# Altium schematic symbol library Recom.SchLib: 1 symbol
Pins are listed as number, name and electrical type; pins without a type are passive.

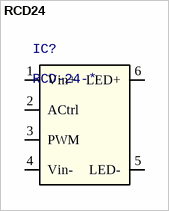
[diagram p0: symbol RCD24]

## RCD24
designator IC?, comment RCD-24-*
Value: RCD-24-*
footprint RCD24
pins: 1 Vin+ (power), 2 ACtrl, 3 PWM, 4 Vin- (power), 5 LED-, 6 LED+